# Altium schematic symbol library POWERS.SchLib: 5 symbols
Pins are listed as number, name and electrical type; pins without a type are passive.

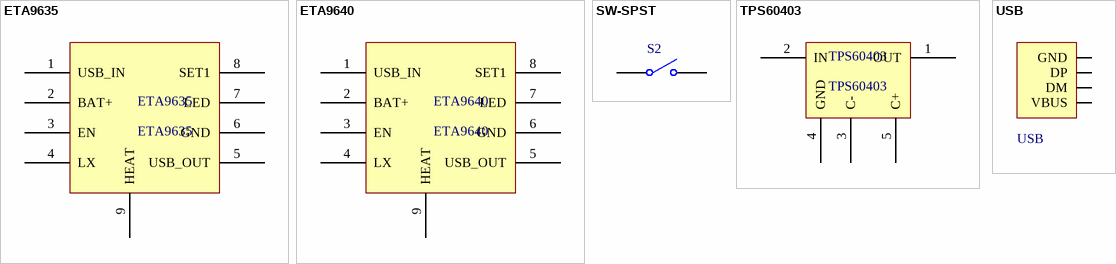
[diagram p0: symbols ETA9635 to USB]

## ETA9635
designator ETA9635
battery charge managment chip
footprint ESOP-8 (SOP, 8-Leads, Body 4.9x3.9mm (max), Pitch 1.27mm, IPC Medium Density)
pins: 1 USB_IN, 2 BAT+, 3 EN, 4 LX, 5 USB_OUT, 6 GND, 7 LED, 8 SET1, 9 HEAT

## ETA9640
designator ETA9640
battery charge managment chip
footprint ESOP-8 (SOP, 8-Leads, Body 4.9x3.9mm (max), Pitch 1.27mm, IPC Medium Density)
pins: 1 USB_IN, 2 BAT+, 3 EN, 4 LX, 5 USB_OUT, 6 GND, 7 LED, 8 SET1, 9 HEAT

## SW-SPST
designator S2  (value not drawn)
Single-Pole, Single-Throw Switch; Published: 24-Mar-1999; LatestRevisionDate: 17-Jul-2002; LatestRevisionNote: Re-released for DXP Platform.; PackageReference: SPST-2; Publisher: Altium Limited
footprint SB-4
pins: 1 COMMON, 2 NO

## TPS60403
designator TPS60403
5V to -5V
footprint SOT23-5 (SOT23, 5-Leads, Body 3.0x3.0mm (max), Pitch 0.95mm, IPC Medium Density)
pins: 1 OUT, 2 IN, 3 C-, 4 GND, 5 C+

## USB
designator USB  (value not drawn)
footprint USB
pins: + VBUS, - GND, DM, DP